# Altium schematic symbol library DC-connector.SchLib: 2 symbols
Pins are listed as number, name and electrical type; pins without a type are passive.

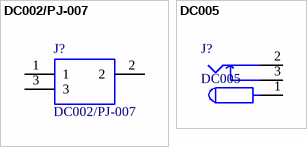
[diagram p0: symbols DC002/PJ-007 to DC005]

## DC002/PJ-007
designator J?
DC Power Connectors Power Jacks; Manufacturer_Name: CUI; Manufacturer_Part_Number: PJ-007; Geometry.Height: 7.4mm; RS Part Number: *; RS Price/Stock: *; Arrow Part Number: PJ-007; Arrow Price/Stock: https://www.arrow.com/en/products/pj-007/cui-inc; Datasheet Link: https://www.cui.com/product/resource/pj-007.pdf
footprint PJ007
footprint DC002/PJ007
pins: 1, 2, 3

## DC005
designator J?
footprint DC005
pins: 1, 2, 3